# Altium footprint library PcbLib1.PcbLib: 1 footprints
Each footprint in its own frame and in the unit in brackets; x right, y up, seen from the top. Pads: shape width x height; smd on the part's side, far side on the other; paste and mask are expansions set on the pad; w line width, h text height; cw(c..) or ccw(c..) is an arc to the next point about the centre after c.
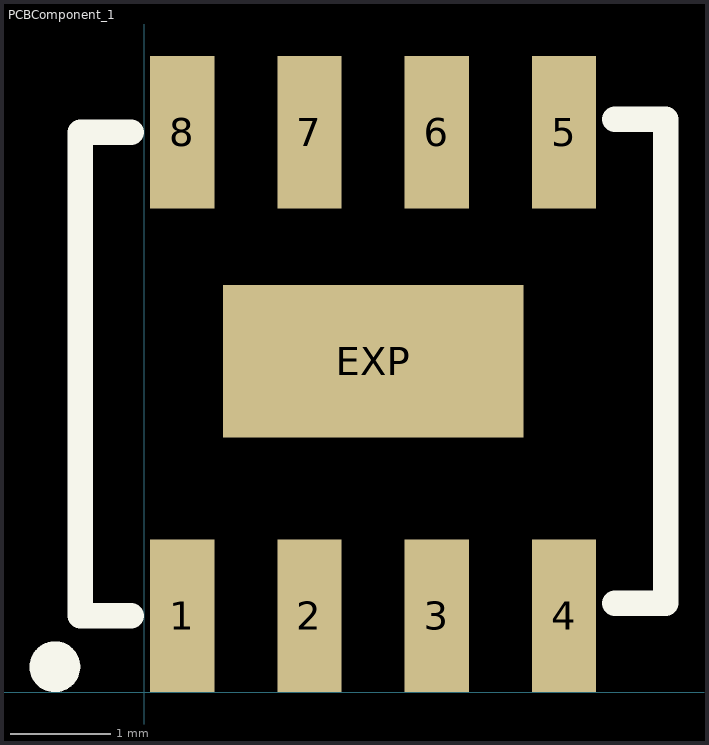
[diagram p0: the footprint, top view; thin cyan lines are the x and y axes]

## PCBComponent_1 [mil]
pads (9):
  rect 25.2x60 smd: 1(15,30) 2(65,30) 3(115,30) 4(165,30) 5(165,220) 6(115,220) 7(65,220) 8(15,220)
  rect 118.11x60 smd: EXP(90,130)
Top Overlay:
  lines w10: -30.26,8.42 cw(c-35,10) -30,10 ; -5,30 -25,30 -25,220 -5,220 ; 185,35 205,35 205,225 185,225